# EAGLE library part AB0805-T3 (library ICs)
Real Time Clock (RTC) IC Clock/Calendar 256B I²C, 2-Wire Serial 16-VFQFN Exposed Pad
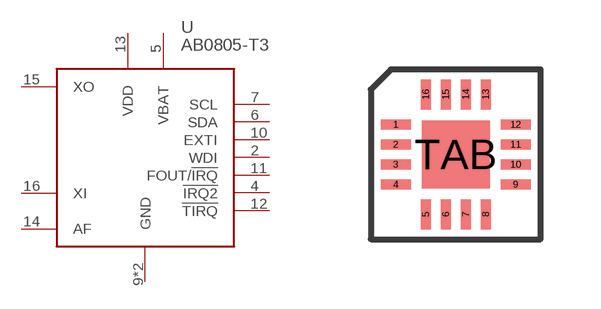
[diagram p195: symbol with the pads of QFN16; footprint QFN16]

Designator prefix U

## AB0805-T3 (DIGIKEY: 535-11926-1-ND; HEIGHT: 1.5; PRICE_PER: 1.37; VALUE: AB0805)  [QFN16]
2  WDI
4  !IRQ2
5  VBAT
6  SDA
7  SCL
9  GND
10  EXTI
11  FOUT/!IRQ
12  !TIRQ
13  VDD
14  AF
15  XO
16  XI
TAB  GND

## Footprint QFN16 (pad centres in mm)
smd 0.75 x 0.25: 1 -1.5,0.75; 2 -1.5,0.25; 3 -1.5,-0.25; 4 -1.5,-0.75; 9 1.5,-0.75; 10 1.5,-0.25; 11 1.5,0.25; 12 1.5,0.75
smd 0.25 x 0.75: 5 -0.75,-1.5; 6 -0.25,-1.5; 7 0.25,-1.5; 8 0.75,-1.5; 13 0.75,1.5; 14 0.25,1.5; 15 -0.25,1.5; 16 -0.75,1.5
smd 1.7 x 1.7: TAB 0,0